# EAGLE library part M8P4 (library omcConnector)
M8, 4-pin, Female Female socket M8x1 angled 4-pol shielded backmounting Technology: THT
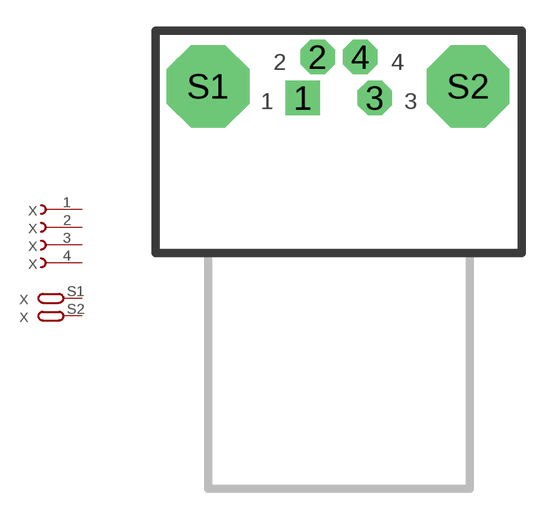
[diagram p9: symbol with the pads of CONEC_42-01427; footprint CONEC_42-01427]

Designator prefix X; gates G$1=PHDR G$2=PHDR G$3=PHDR G$4=PHDR G$5=SR G$6=SR

## M8P4-ANG (#VENDOR: CONEC,42-01427; DIST#REICHELT#: CONEC 42-01427; VALUE: M8,4p)  [CONEC_42-01427]
1  G$1:P$1
2  G$2:P$1
3  G$3:P$1
4  G$4:P$1
S1  G$5:P$1
S2  G$6:P$1

## Footprint CONEC_42-01427 (pad centres in mm)
Female M8, 4-pin, angular, Technology: THT Mechanical Reference (Reichelt) <https://cdn-reichelt.de/documents/datenblatt/C152/CONEC_ID34023_42K1A954_E.pdf>
drill 1 pad 1.676 square: 1 -1.746,-1.984
drill 1 pad 1.676 octagon: 2 -1.032,0; 3 1.746,-1.984; 4 1.032,0
drill 3 octagon: S1 -6.35,-1.429; S2 6.271,-1.429